# EAGLE library part 19428-0014 (library SamacSys_Parts)
Molex MX150L Series, Series Number 19429, 5.84mm Pitch 10 Way 2 Row Straight PCB Header, Solder Termination, 18A Source: Datasheet <https://www.molex.com/pdm_docs/sd/194280014_sd.pdf>
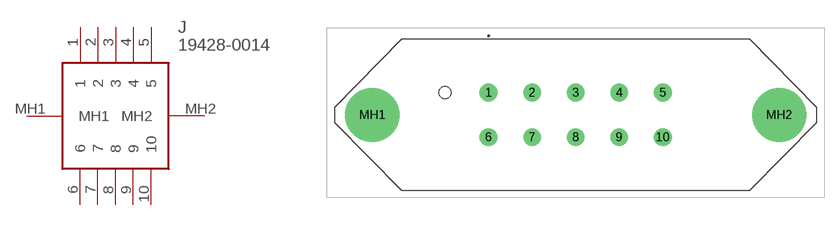
[diagram p5: symbol with the pads of 194280014; footprint 194280014]

Designator prefix J

## 19428-0014 (DESCRIPTION: Molex MX150L Series, Series Number 19429, 5.84mm Pitch 10 Way 2 Row Straight PCB Header, Solder Termination, 18A; HEIGHT: 27.79mm; MANUFACTURER_NAME: Molex; MANUFACTURER_PART_NUMBER: 19428-0014; MOUSER_PART_NUMBER: 538-19428-0014; MOUSER_PRICE-STOCK: https://www.mouser.co.uk/ProductDetail/Molex/19428-0014?qs=%252BFxTTVpkjY5jOvOVrS0rEw%3D%3D)  [194280014]
1  1
2  2
3  3
4  4
5  5
6  6
7  7
8  8
9  9
10  10
MH1  MH1
MH2  MH2

## Footprint 194280014 (pad centres in mm)
19428-0014
drill 1.6 pad 2.4: 1 0,0; 2 5.84,0; 3 11.68,0; 4 17.52,0; 5 23.36,0; 6 0,-5.99; 7 5.84,-5.99; 8 11.68,-5.99; 9 17.52,-5.99; 10 23.36,-5.99
drill 4.86 pad 7.29: MH1 -15.61,-2.995; MH2 39,-2.995
hole 1.6 at -5.84,0